# EAGLE library part 64900821122 (library Wire_to_Board_Connectors_rev15d)
WR-MPC4 4.20mm Male Dual Row Vertical Header, 8 Pins=>Code : Con_WTB_MPC4_2_PCB_64900821122 <http://katalog.we-online.de/media/thumbs2/eican/thb_Con_WTB_MPC4_2_PCB_6490xx21122_pf2.jpg> Details see: http://katalog.we-online.de/en/em/649_0xx_211_22 Created 2014-06-06, Karrer Zheng 2014 (C) Würth Elektronik
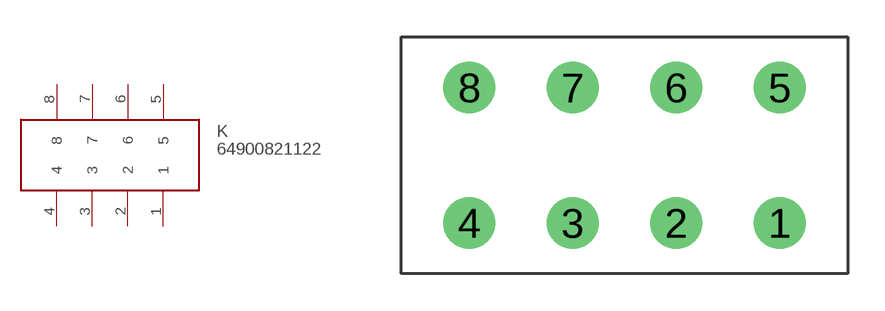
[diagram p281: symbol with the pads of 64900821122; footprint 64900821122]

Designator prefix K

## 64900821122  [64900821122]
1  1
2  2
3  3
4  4
5  5
6  6
7  7
8  8

## Footprint 64900821122 (pad centres in mm)
WR-MPC4 4.20mm Male Dual Row Vertical Header, 8 Pins
drill 1.4: 1 6.3,-2.75; 2 2.1,-2.75; 3 -2.1,-2.75; 4 -6.3,-2.75; 5 6.3,2.75; 6 2.1,2.75; 7 -2.1,2.75; 8 -6.3,2.75